# Altium footprint library SMB_DO-214AA.PcbLib: 1 footprints
Each footprint in its own frame and in the unit in brackets; x right, y up, seen from the top. Pads: shape width x height; smd on the part's side, far side on the other; paste and mask are expansions set on the pad; w line width, h text height; cw(c..) or ccw(c..) is an arc to the next point about the centre after c.
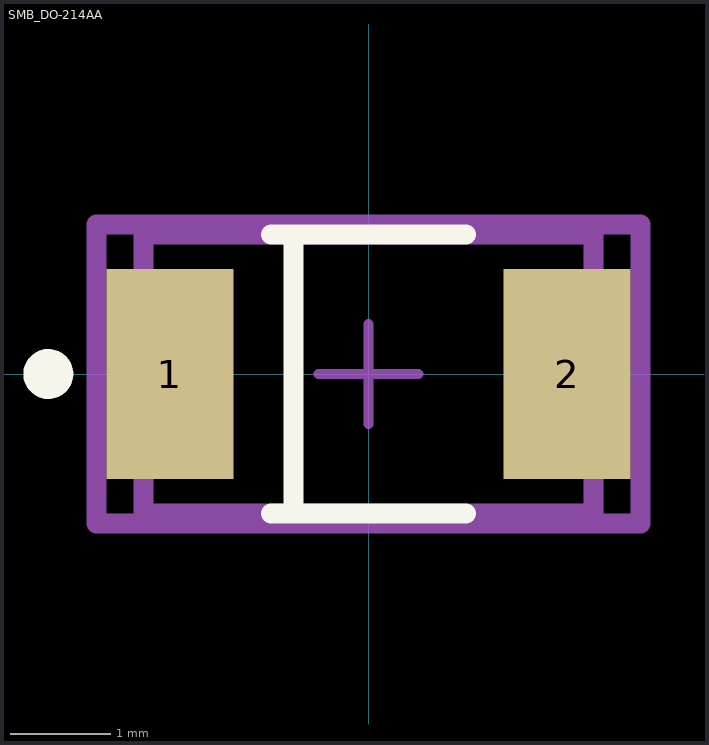
[diagram p0: the footprint, top view; thin cyan lines are the x and y axes]

## SMB_DO-214AA [mm]
pads (2):
  rect 1.27x2.1 smd paste+0 mask+0: 1(-1.985,0) 2(1.985,0)
Top Overlay:
  circle w0.25: c-3.2,0 r0.125
  lines w0.2: -0.975,-1.395 0.975,-1.395 ; -0.975,1.395 0.975,1.395 ; -0.75,-1.3 -0.75,1.3
Top Assembly:
  lines w0.2: -2.72,-1.495 2.72,-1.495 2.72,1.495 -2.72,1.495 -2.72,-1.495
  text ".Designator" at 0,-0.001 h1
Top 3D Body:
  lines w0.2: -2.25,-1.395 2.25,-1.395 2.25,1.395 -2.25,1.395 -2.25,-1.395
Top Courtyard:
  lines w0.2: -2.72,-1.495 2.72,-1.495 2.72,1.495 -2.72,1.495 -2.72,-1.495
Top Component Center:
  lines w0.1: -0.5,0 0.5,0 ; 0,-0.5 0,0.5
3D body "Diode_Bourns_Inc_SMAJ6_0A_eec.STEP": height 0.25, standoff 0, extent -2.72,-1.495 2.72,1.495